# Altium footprint library BC20_PCB.PcbLib: 11 footprints
Each footprint in its own frame and in the unit in brackets; x right, y up, seen from the top. Pads: shape width x height; smd on the part's side, far side on the other; paste and mask are expansions set on the pad; w line width, h text height; cw(c..) or ccw(c..) is an arc to the next point about the centre after c.
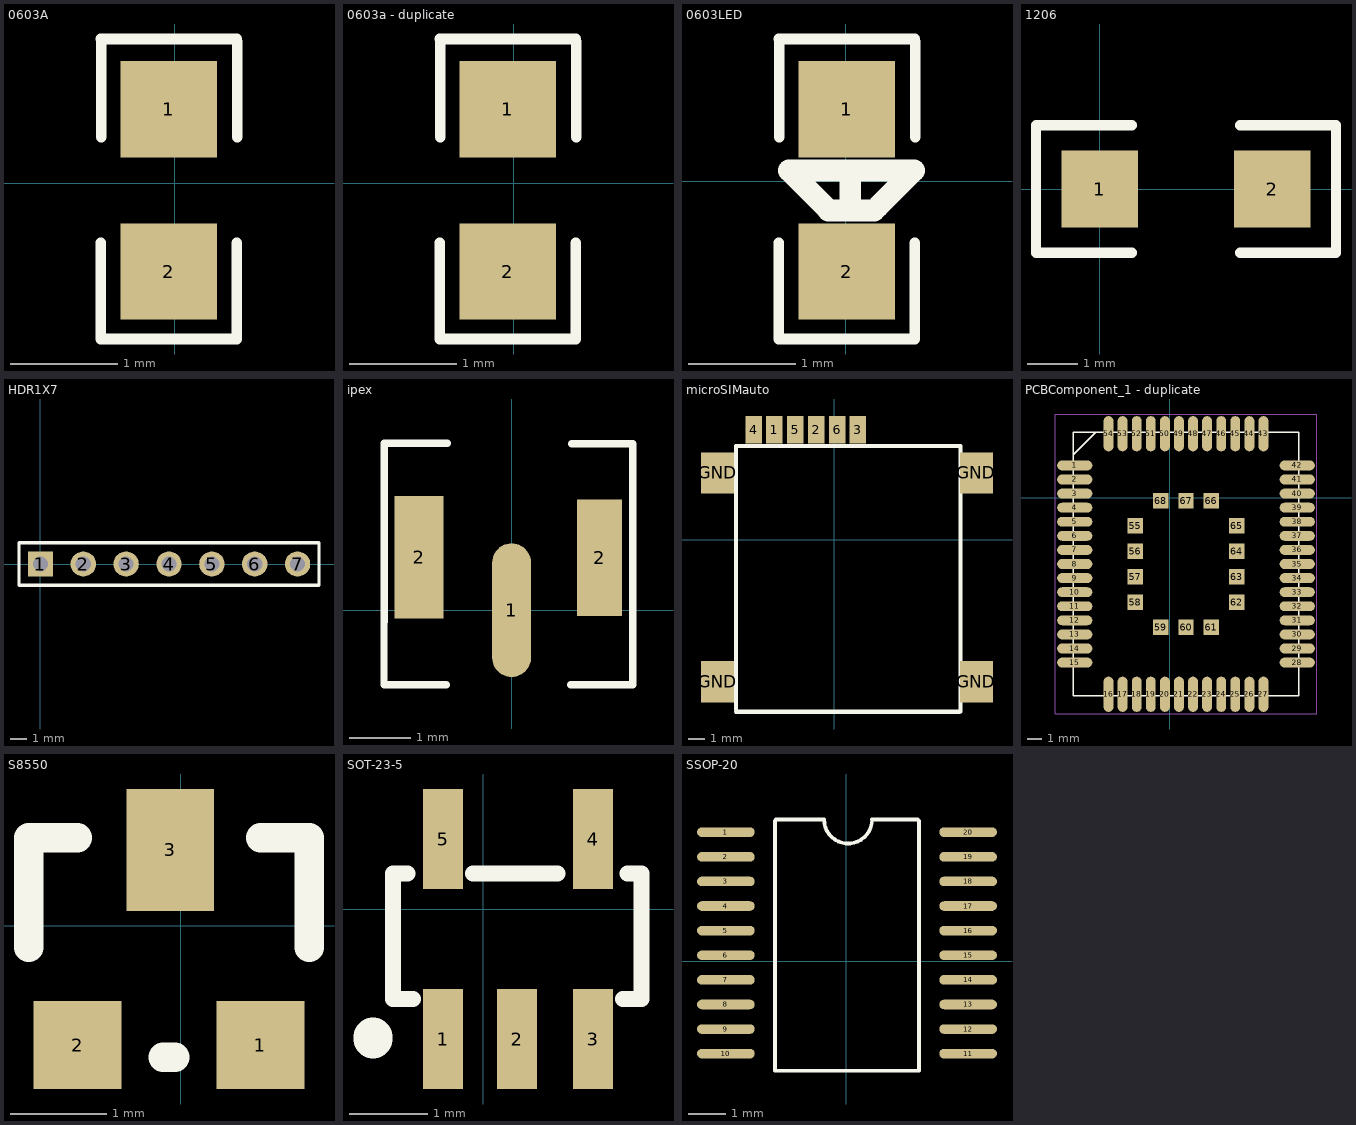
[diagram p0: the footprints below, top view; thin cyan lines are the x and y axes]

## 0603A [mm]
pads (2):
  rect 0.9x0.9 smd: 1(-0.058,0.688) 2(-0.058,-0.826)
Top Overlay:
  lines w0.1: -0.693,-1.446 -0.693,-0.557 ; -0.693,-1.457 0.577,-1.457 ; -0.692,1.345 0.578,1.345 ; -0.689,0.43 -0.689,1.319 ; 0.577,-1.45 0.577,-0.561 ; 0.582,0.43 0.582,1.319

## 0603a - duplicate [mm]
pads (2):
  rect 0.9x0.9 smd: 1(-0.058,0.688) 2(-0.058,-0.826)
Top Overlay:
  lines w0.1: -0.693,-1.446 -0.693,-0.557 ; -0.693,-1.457 0.577,-1.457 ; -0.692,1.345 0.578,1.345 ; -0.689,0.43 -0.689,1.319 ; 0.577,-1.45 0.577,-0.561 ; 0.582,0.43 0.582,1.319

## 0603LED [mm]
pads (2):
  rect 0.9x0.9 smd: 1(0.009,0.673) 2(0.009,-0.842)
Top Overlay:
  lines w0.1: -0.626,-1.462 -0.626,-0.573 ; -0.625,-1.472 0.645,-1.472 ; -0.625,1.329 0.645,1.329 ; -0.621,0.414 -0.621,1.303 ; 0.645,-1.465 0.645,-0.576 ; 0.649,0.414 0.649,1.303
  lines w0.203: -0.175,-0.257 -0.533,0.102 0.639,0.102 0.303,-0.234 ; -0.164,-0.272 0.266,-0.272 ; 0.041,-0.196 0.041,0.023

## 1206 [mil]
pads (2):
  rect 60x60 smd: 1(0,0) 2(135,0)
Top Overlay:
  lines w8: 25,-50 -50,-50 -50,50 25,50 ; 110,-50 185,-50 185,50 110,50

## HDR1X7 [mm]
pads (7):
  rect 1.5x1.5 hole 0.9: 1(0,0)
  round 1.5 hole 0.9: 2(2.54,0) 3(5.08,0) 4(7.62,0) 5(10.16,0) 6(12.7,0) 7(15.24,0)
Top Overlay:
  lines w0.2: -1.27,-1.27 -1.27,1.27 16.51,1.27 16.51,-1.27 -1.27,-1.27

## ipex [mm]
pads (3):
  oval 0.635x2.184 smd: 1(0,0)
  rect 0.8x2 smd: 2(-1.508,0.861)
  rect 0.737x1.905 smd: 2(1.439,0.858)
Top Overlay:
  lines w0.12: -2.083,-0.203 -2.083,-1.219 -1.067,-1.219 ; -2.078,-0.195 -2.078,2.726 -1.05,2.726 ; 0.965,-1.219 1.981,-1.219 1.981,-0.203 1.981,2.718 0.982,2.718

## microSIMauto [mm]
pads (10):
  rect 1x1.65 smd: 1(-3.651,6.689) 2(-1.111,6.689) 3(1.429,6.689) 4(-4.921,6.689) 5(-2.381,6.689) 6(0.159,6.689)
  rect 2x2.5 smd: GND(-7.112,-8.636) GND(-7.112,4.064) GND(8.636,-8.636) GND(8.636,4.064)
Top Overlay:
  lines w0.254: -5.998,-10.325 -5.998,5.705 7.66,5.705 ; -5.991,-10.465 7.614,-10.465 ; 7.672,-10.449 7.672,5.692

## PCBComponent_1 - duplicate [mm]
pads (68):
  oval 2.5x0.7 smd mask+0.05: 1(-6.757,2.301) 2(-6.757,1.301) 3(-6.757,0.301) 4(-6.757,-0.699) 5(-6.757,-1.699) 6(-6.757,-2.699) 7(-6.757,-3.699) 8(-6.757,-4.699) 9(-6.757,-5.699) 10(-6.757,-6.699) 11(-6.757,-7.699) 12(-6.757,-8.699) 13(-6.757,-9.699) 14(-6.757,-10.699) 15(-6.757,-11.699) 28(9.043,-11.699) 29(9.043,-10.699) 30(9.043,-9.699) 31(9.043,-8.699) 32(9.043,-7.699) 33(9.043,-6.699) 34(9.043,-5.699) 35(9.043,-4.699) 36(9.043,-3.699) 37(9.043,-2.699) 38(9.043,-1.699) 39(9.043,-0.699) 40(9.043,0.301) 41(9.043,1.301) 42(9.043,2.301)
  oval 0.7x2.5 smd mask+0.05: 16(-4.357,-13.949) 17(-3.357,-13.949) 18(-2.357,-13.949) 19(-1.357,-13.949) 20(-0.357,-13.949) 21(0.643,-13.949) 22(1.643,-13.949) 23(2.643,-13.949) 24(3.643,-13.949) 25(4.643,-13.949) 26(5.643,-13.949) 27(6.643,-13.949) 43(6.643,4.551) 44(5.643,4.551) 45(4.643,4.551) 46(3.643,4.551) 47(2.643,4.551) 48(1.643,4.551) 49(0.643,4.551) 50(-0.357,4.551) 51(-1.357,4.551) 52(-2.357,4.551) 53(-3.357,4.551) 54(-4.357,4.551)
  rect 1.1x1.1 smd mask+0.05: 55(-2.457,-1.999) 56(-2.457,-3.799) 57(-2.457,-5.599) 58(-2.457,-7.399) 59(-0.657,-9.199) 60(1.143,-9.199) 61(2.943,-9.199) 62(4.743,-7.399) 63(4.743,-5.599) 64(4.743,-3.799) 65(4.743,-1.999) 66(2.943,-0.199) 67(1.143,-0.199) 68(-0.657,-0.199)
Top Overlay:
  lines w0.1: -6.857,3.051 -5.257,4.651 ; -6.857,-14.049 -6.857,4.651 9.143,4.651 9.143,-14.049 -6.857,-14.049
Mechanical 1:
  lines w0.01: -8.157,-15.349 10.443,-15.349 10.443,5.951 -8.157,5.951 -8.157,-15.349

## S8550 [mil]
pads (3):
  rect 36x36 smd: 1(32.66,-48.93) 2(-42.34,-48.93)
  rect 36x50 smd: 3(-4.34,31.07)
Top Overlay:
  lines w12: -62.34,-8.93 -62.34,36.07 -42.34,36.07 ; -7.34,-53.93 -2.34,-53.93 ; 32.66,36.07 52.66,36.07 52.66,-8.93

## SOT-23-5 [mil]
pads (5):
  rect 20x50 smd: 1(-20,-65) 2(17,-65) 3(55,-65) 4(55,35) 5(-20,35)
Top Overlay:
  lines w8: -37.76,17.76 -45,17.76 -45,-45 -35,-45 ; -5,17.76 37.24,17.76 ; 70,-45 79.32,-45 79.32,17.76 72.24,17.76
  lines w19.68: -55,-65 -55,-64

## SSOP-20 [mil]
pads (20):
  oval 60x10 smd: 1(-125,134) 2(-125,108.41) 3(-125,82.82) 4(-125,57.23) 5(-125,31.64) 6(-125,6.05) 7(-125,-19.54) 8(-125,-45.13) 9(-125,-70.72) 10(-125,-96.31) 11(126.97,-96.31) 12(126.97,-70.72) 13(126.97,-45.13) 14(126.97,-19.54) 15(126.97,6.05) 16(126.97,31.64) 17(126.97,57.23) 18(126.97,82.82) 19(126.97,108.41) 20(126.97,134)
Top Overlay:
  lines w3.94: -73.82,145.81 -73.82,-114.03 75.79,-114.03 75.79,145.81 74.41,147.19 27.13,147.19 cw(c2.13,147.19) -22.87,147.19 -72.87,147.19